# Altium footprint library TPS54560DDAR.PcbLib: 3 footprints
Each footprint in its own frame and in the unit in brackets; x right, y up, seen from the top. Pads: shape width x height; smd on the part's side, far side on the other; paste and mask are expansions set on the pad; w line width, h text height; cw(c..) or ccw(c..) is an arc to the next point about the centre after c.
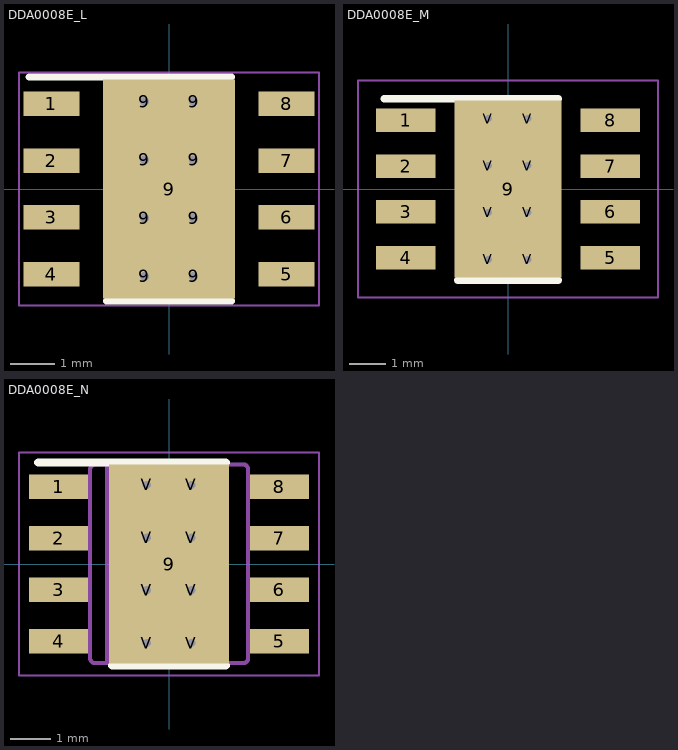
[diagram p0: the footprints below, top view; thin cyan lines are the x and y axes]

## DDA0008E_L [mm]
pads (17):
  rect 1.25x0.55 smd paste+0 mask+0: 1(-2.625,1.905) 2(-2.625,0.635) 3(-2.625,-0.635) 4(-2.625,-1.905) 5(2.625,-1.905) 6(2.625,-0.635) 7(2.625,0.635) 8(2.625,1.905)
  round 0.5 / inner round 1.524 / far side round 0.5 hole 0.203 paste-0.25 mask-0.241: 9(-0.55,-1.95) 9(-0.55,-0.65) 9(-0.55,0.65) 9(-0.55,1.95) 9(0.55,-1.95) 9(0.55,-0.65) 9(0.55,0.65) 9(0.55,1.95)
  rect 2.95x4.9 smd paste-2.437 mask-2.438: 9(0,0)
Top Overlay:
  lines w0.152: -3.125,2.5 1.4,2.5 ; -1.4,-2.5 1.4,-2.5
Top Paste:
  region: -1.199,-1.511 -1.2,-1.502 -1.2,1.502 -1.199,1.511 -1.196,1.52 -1.192,1.529 -1.186,1.536 -1.179,1.542 -1.17,1.546 -1.161,1.549 -1.152,1.55 1.152,1.55 1.161,1.549 1.17,1.546 1.179,1.542 1.186,1.536 1.192,1.529 1.196,1.52 1.199,1.511 1.2,1.502 1.2,-1.502 1.199,-1.511 1.196,-1.52 1.192,-1.529 1.186,-1.536 1.179,-1.542 1.17,-1.546 1.161,-1.549 1.152,-1.55 -1.152,-1.55 -1.161,-1.549 -1.17,-1.546 -1.179,-1.542 -1.186,-1.536 -1.192,-1.529 -1.196,-1.52
Top Solder:
  region: -1.199,-1.511 -1.2,-1.502 -1.2,1.502 -1.199,1.511 -1.196,1.52 -1.192,1.529 -1.186,1.536 -1.179,1.542 -1.17,1.546 -1.161,1.549 -1.152,1.55 1.152,1.55 1.161,1.549 1.17,1.546 1.179,1.542 1.186,1.536 1.192,1.529 1.196,1.52 1.199,1.511 1.2,1.502 1.2,-1.502 1.199,-1.511 1.196,-1.52 1.192,-1.529 1.186,-1.536 1.179,-1.542 1.17,-1.546 1.161,-1.549 1.152,-1.55 -1.152,-1.55 -1.161,-1.549 -1.17,-1.546 -1.179,-1.542 -1.186,-1.536 -1.192,-1.529 -1.196,-1.52
Mechanical 15:
  lines w0.05: -3.35,-2.6 3.35,-2.6 3.35,2.6 -3.35,2.6 -3.35,-2.6
  lines w0.1: -0.5,0 0.5,0 ; 0,-0.5 0,0.5

## DDA0008E_M [mm]
pads (17):
  rect 1.65x0.65 smd paste+0 mask+0: 1(-2.825,1.905) 2(-2.825,0.635) 3(-2.825,-0.635) 4(-2.825,-1.905) 5(2.825,-1.905) 6(2.825,-0.635) 7(2.825,0.635) 8(2.825,1.905)
  rect 2.95x4.9 smd paste-2.437 mask-2.438: 9(0,0)
  round 0.5 / inner round 1.524 / far side round 0.5 hole 0.203 paste-0.25 mask-0.241: V(-0.55,-1.95) V(-0.55,-0.65) V(-0.55,0.65) V(-0.55,1.95) V(0.55,-1.95) V(0.55,-0.65) V(0.55,0.65) V(0.55,1.95)
Top Overlay:
  lines w0.2: -3.425,2.5 1.4,2.5 ; -1.4,-2.525 1.4,-2.525
Top Paste:
  region: -1.199,-1.511 -1.2,-1.502 -1.2,1.502 -1.199,1.511 -1.196,1.52 -1.192,1.529 -1.186,1.536 -1.179,1.542 -1.17,1.546 -1.161,1.549 -1.152,1.55 1.152,1.55 1.161,1.549 1.17,1.546 1.179,1.542 1.186,1.536 1.192,1.529 1.196,1.52 1.199,1.511 1.2,1.502 1.2,-1.502 1.199,-1.511 1.196,-1.52 1.192,-1.529 1.186,-1.536 1.179,-1.542 1.17,-1.546 1.161,-1.549 1.152,-1.55 -1.152,-1.55 -1.161,-1.549 -1.17,-1.546 -1.179,-1.542 -1.186,-1.536 -1.192,-1.529 -1.196,-1.52
Top Solder:
  region: -1.199,-1.511 -1.2,-1.502 -1.2,1.502 -1.199,1.511 -1.196,1.52 -1.192,1.529 -1.186,1.536 -1.179,1.542 -1.17,1.546 -1.161,1.549 -1.152,1.55 1.152,1.55 1.161,1.549 1.17,1.546 1.179,1.542 1.186,1.536 1.192,1.529 1.196,1.52 1.199,1.511 1.2,1.502 1.2,-1.502 1.199,-1.511 1.196,-1.52 1.192,-1.529 1.186,-1.536 1.179,-1.542 1.17,-1.546 1.161,-1.549 1.152,-1.55 -1.152,-1.55 -1.161,-1.549 -1.17,-1.546 -1.179,-1.542 -1.186,-1.536 -1.192,-1.529 -1.196,-1.52
Mechanical 15:
  lines w0.05: -4.15,-3 -4.15,3 4.15,3 4.15,-3 -4.15,-3
  lines w0.1: -0.5,0 0.5,0 ; 0,-0.5 0,0.5

## DDA0008E_N [mm]
pads (17):
  rect 1.45x0.6 smd paste+0 mask+0: 1(-2.725,1.905) 2(-2.725,0.635) 3(-2.725,-0.635) 4(-2.725,-1.905) 5(2.725,-1.905) 6(2.725,-0.635) 7(2.725,0.635) 8(2.725,1.905)
  rect 2.95x4.9 smd paste-2.437 mask-2.438: 9(0,0)
  round 0.5 / inner round 1.524 / far side round 0.5 hole 0.203 paste-0.25 mask-0.241: V(-0.55,-1.95) V(-0.55,-0.65) V(-0.55,0.65) V(-0.55,1.95) V(0.55,-1.95) V(0.55,-0.65) V(0.55,0.65) V(0.55,1.95)
Top Overlay:
  lines w0.2: -3.225,2.5 1.4,2.5 ; -1.4,-2.5 1.4,-2.5
Top Paste:
  region: -1.199,-1.511 -1.2,-1.502 -1.2,1.502 -1.199,1.511 -1.196,1.52 -1.192,1.529 -1.186,1.536 -1.179,1.542 -1.17,1.546 -1.161,1.549 -1.152,1.55 1.152,1.55 1.161,1.549 1.17,1.546 1.179,1.542 1.186,1.536 1.192,1.529 1.196,1.52 1.199,1.511 1.2,1.502 1.2,-1.502 1.199,-1.511 1.196,-1.52 1.192,-1.529 1.186,-1.536 1.179,-1.542 1.17,-1.546 1.161,-1.549 1.152,-1.55 -1.152,-1.55 -1.161,-1.549 -1.17,-1.546 -1.179,-1.542 -1.186,-1.536 -1.192,-1.529 -1.196,-1.52
Top Solder:
  region: -1.199,-1.511 -1.2,-1.502 -1.2,1.502 -1.199,1.511 -1.196,1.52 -1.192,1.529 -1.186,1.536 -1.179,1.542 -1.17,1.546 -1.161,1.549 -1.152,1.55 1.152,1.55 1.161,1.549 1.17,1.546 1.179,1.542 1.186,1.536 1.192,1.529 1.196,1.52 1.199,1.511 1.2,1.502 1.2,-1.502 1.199,-1.511 1.196,-1.52 1.192,-1.529 1.186,-1.536 1.179,-1.542 1.17,-1.546 1.161,-1.549 1.152,-1.55 -1.152,-1.55 -1.161,-1.549 -1.17,-1.546 -1.179,-1.542 -1.186,-1.536 -1.192,-1.529 -1.196,-1.52
Mechanical 13:
  lines w0.1: -1.946,-2.321 ccw(c-1.819,-2.32) -1.82,-2.447 ; -1.946,-2.321 -1.946,-2.32 -1.946,2.329 ; -1.946,2.33 -1.946,2.329 ; -1.524,-2.447 -1.524,2.456 ; -1.946,2.33 cw(c-1.819,2.329) -1.82,2.456 ; -1.819,-2.447 1.826,-2.447 1.827,-2.447 ccw(c1.826,-2.32) 1.953,-2.321 1.953,-2.32 1.953,2.329 ; -1.82,-2.447 -1.819,-2.447 ; -1.82,2.456 -1.819,2.456 ; -1.819,2.456 1.826,2.456 1.827,2.456 cw(c1.826,2.329) 1.953,2.33 ; 1.953,2.329 1.953,2.33 ; -2.975,-2.091 -2.975,-1.71 -2.614,-1.71 -2.497,-1.71 -2.473,-1.71 -2.144,-1.71 -1.946,-1.71 -1.946,-2.091 -2.144,-2.091 -2.473,-2.091 -2.497,-2.091 -2.614,-2.091 -2.975,-2.091 ; -2.975,-0.821 -2.975,-0.44 -2.614,-0.44 -2.497,-0.44 -2.473,-0.44 -2.144,-0.44 -1.946,-0.44 -1.946,-0.821 -2.144,-0.821 -2.473,-0.821 -2.497,-0.821 -2.614,-0.821 -2.975,-0.821 ; -2.975,0.449 -2.975,0.83 -2.614,0.83 -2.497,0.83 -2.473,0.83 -2.144,0.83 -1.946,0.83 -1.946,0.449 -2.144,0.449 -2.473,0.449 -2.497,0.449 -2.614,0.449 -2.975,0.449 ; -2.975,1.719 -2.975,2.1 -2.614,2.1 -2.497,2.1 -2.473,2.1 -2.144,2.1 -1.946,2.1 -1.946,1.719 -2.144,1.719 -2.473,1.719 -2.497,1.719 -2.614,1.719 -2.975,1.719 ; -0.632,1.16 ccw(c-0.632,1.478) -0.632,1.795 ccw(c-0.632,1.478) -0.632,1.16 ; 1.953,-2.091 1.953,-1.71 2.15,-1.71 2.479,-1.71 2.503,-1.71 2.621,-1.71 2.981,-1.71 2.981,-2.091 2.621,-2.091 2.503,-2.091 2.479,-2.091 2.15,-2.091 1.953,-2.091 ; 1.953,-0.821 1.953,-0.44 2.15,-0.44 2.479,-0.44 2.503,-0.44 2.621,-0.44 2.981,-0.44 2.981,-0.821 2.621,-0.821 2.503,-0.821 2.479,-0.821 2.15,-0.821 1.953,-0.821 ; 1.953,0.449 1.953,0.83 2.15,0.83 2.479,0.83 2.503,0.83 2.621,0.83 2.981,0.83 2.981,0.449 2.621,0.449 2.503,0.449 2.479,0.449 2.15,0.449 1.953,0.449 ; 1.953,1.719 1.953,2.1 2.15,2.1 2.479,2.1 2.503,2.1 2.621,2.1 2.981,2.1 2.981,1.719 2.621,1.719 2.503,1.719 2.479,1.719 2.15,1.719 1.953,1.719
Mechanical 15:
  lines w0.05: -3.7,-2.75 3.7,-2.75 3.7,2.75 -3.7,2.75 -3.7,-2.75
  lines w0.1: -0.5,0 0.5,0 ; 0,-0.5 0,0.5